# Altium footprint library STMP2151STR.PcbLib: 1 footprints
Each footprint in its own frame and in the unit in brackets; x right, y up, seen from the top. Pads: shape width x height; smd on the part's side, far side on the other; paste and mask are expansions set on the pad; w line width, h text height; cw(c..) or ccw(c..) is an arc to the next point about the centre after c.
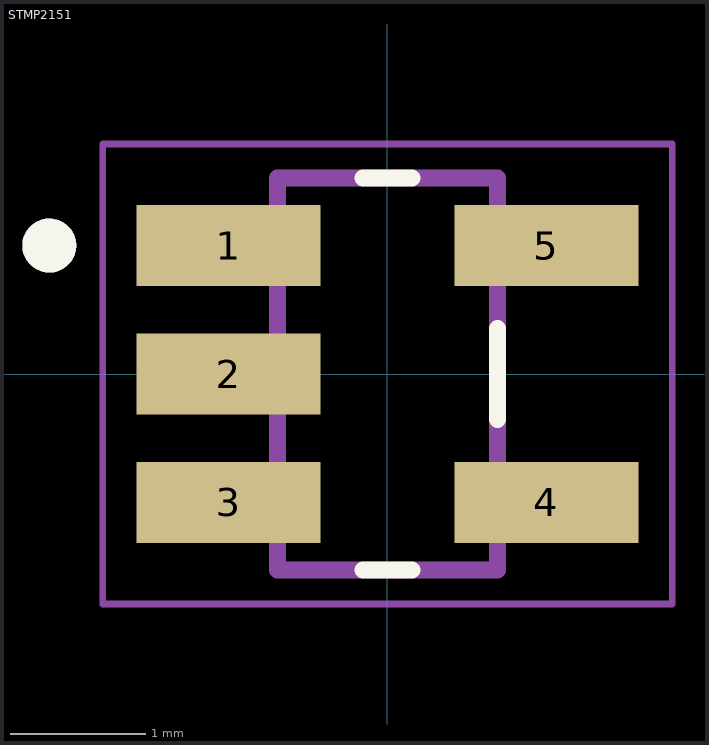
[diagram p0: the footprint, top view; thin cyan lines are the x and y axes]

## STMP2151 [mm]
height 1.45
pads (5):
  rect 1.36x0.6 smd: 1(-1.175,0.95) 2(-1.175,0) 3(-1.175,-0.95) 4(1.175,-0.95) 5(1.175,0.95)
Top Overlay:
  circle w0.2: c-2.5,0.95 r0.1
  lines w0.127: -0.18,-1.45 0.18,-1.45 ; -0.18,1.45 0.18,1.45 ; 0.813,-0.335 0.813,0.335
Mechanical 13:
  circle w0.2: c-2.5,0.95 r0.1
  lines w0.127: -0.813,-1.45 0.813,-1.45 0.813,1.45 -0.813,1.45 -0.813,-1.45
Mechanical 15:
  lines w0.05: -2.105,-1.7 2.105,-1.7 2.105,1.7 -2.105,1.7 -2.105,-1.7
3D body "step_temp.STEP": height 1.45, standoff 0, extent -1.4,-1.45 1.4,1.45